# Altium integrated library HRS2H_RELAY.IntLib: 1 symbol
Pins are listed as number, name and electrical type; pins without a type are passive.

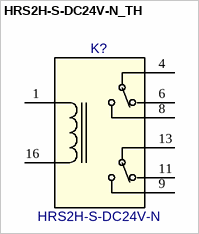
[diagram p0: symbol HRS2H-S-DC24V-N_TH]

## HRS2H-S-DC24V-N_TH
designator K?, comment HRS2H-S-DC24V-N
Relay DPDT 1A 24VDC; Mantech PN: 72M7243; EDM-PN: *; Text2: *; Text1: *; Part Number: HRS2H-S-DC24V-N
footprint REL-D2n (D2n 10.0x20.0mm)
pins: 1, 4, 6, 8, 9, 11, 13, 16